# Altium footprint library Custom.PcbLib: 446 footprints (part 5 of 28)
Each footprint in its own frame and in the unit in brackets; x right, y up, seen from the top. Pads: shape width x height; smd on the part's side, far side on the other; paste and mask are expansions set on the pad; w line width, h text height; cw(c..) or ccw(c..) is an arc to the next point about the centre after c.
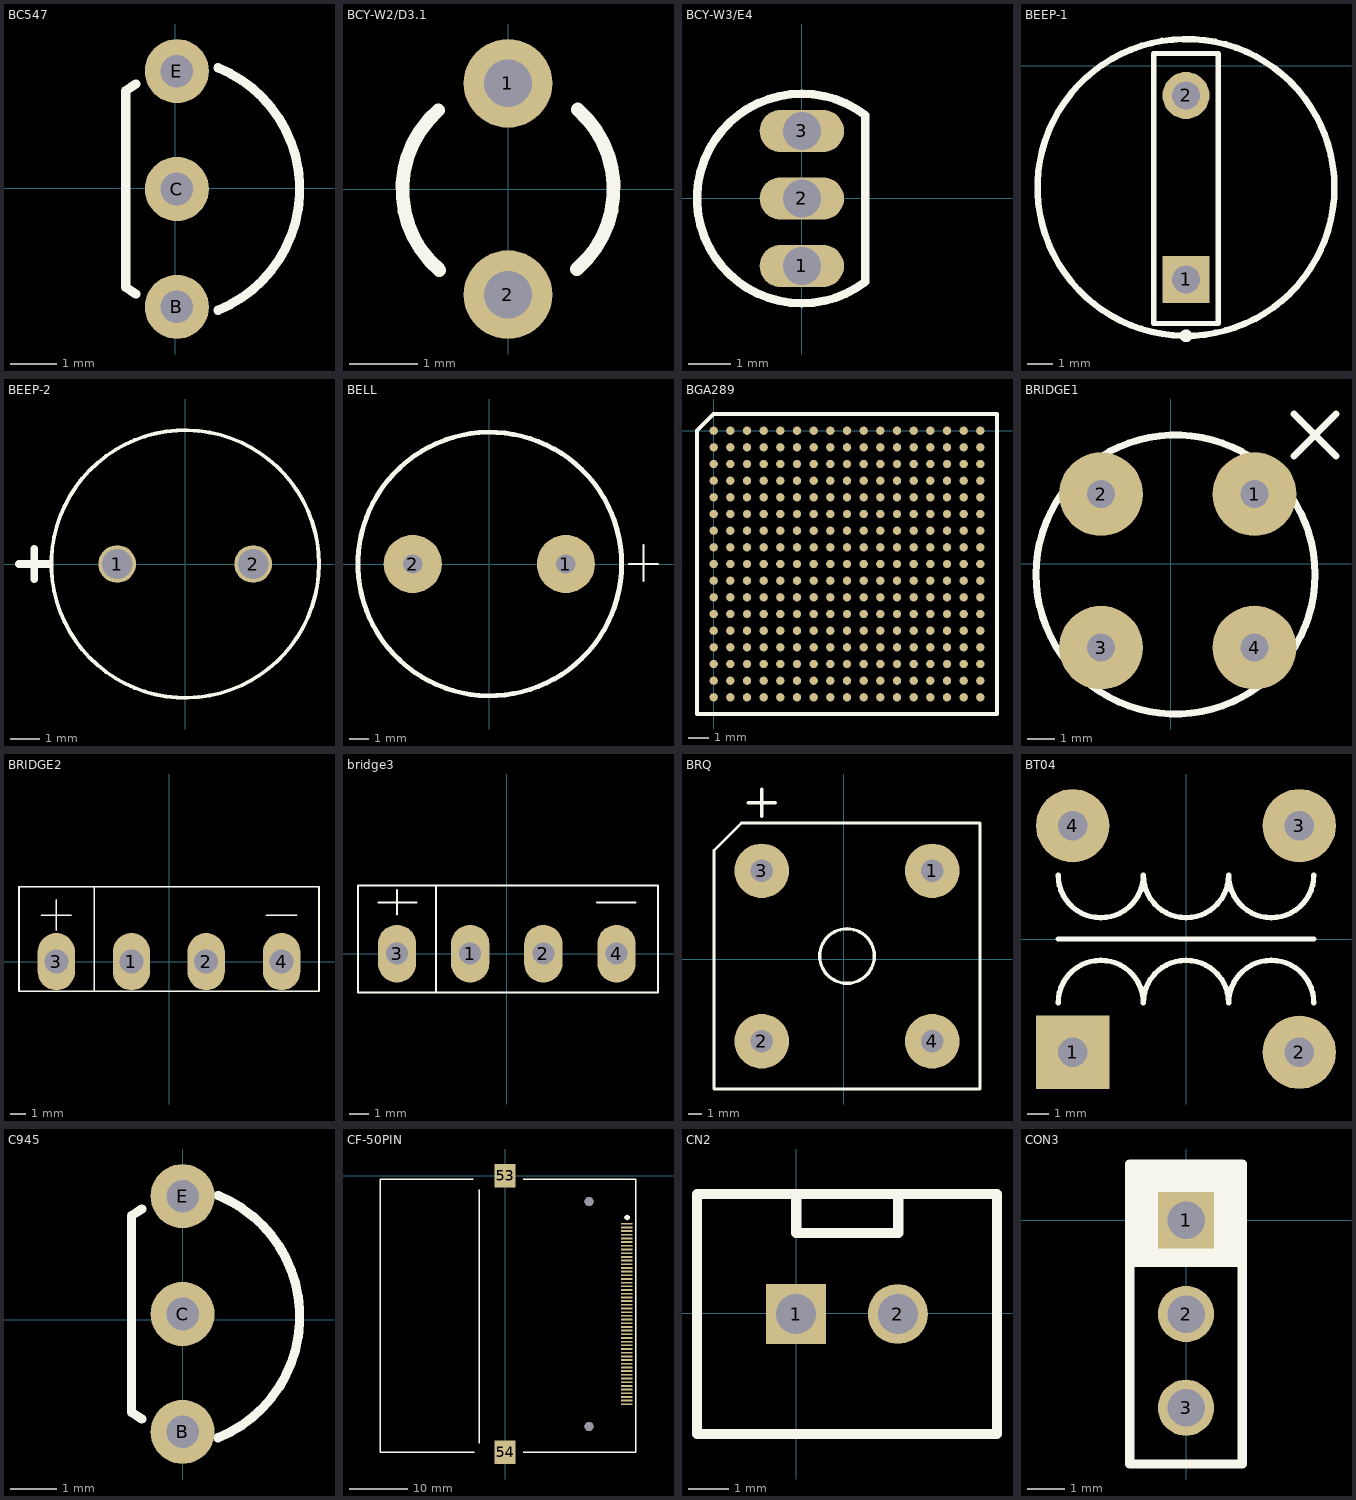
[diagram p4: the footprints below, top view; thin cyan lines are the x and y axes]

## BC547 [mm]
pads (3):
  round 1.38 hole 0.7: B(0.04,-2.56) C(0.04,-0.02) E(0.04,2.52)
Top Overlay:
  lines w0.2: -0.842,-2.283 -1.061,-2.137 -1.061,2.097 -0.842,2.243 ; 0.925,-2.63 ccw(c-0.129,-0.02) 0.925,2.59

## BCY-W2/D3.1 [mm] "Crystal, Thru-Hole; 2 Leads; Body 3.1 x 8.2 mm (Dia.xH)"
pads (2):
  round 1.3 hole 0.7: 1(0,1.55) 2(0,-1.55)
Top Overlay:
  lines w0.2: -1.022,1.155 ccw(c0,-0.01) -1.006,-1.189 ; 1.006,-1.179 ccw(c0,0) 1.022,1.165

## BCY-W3/E4 [mm] "TO, Flat Index; 3 In-Line, Axial Leads; Body Dia. 4.7mm"
pads (3):
  oval 2x1 hole 0.9: 1(0,-1.6) 2(0,0) 3(0,1.6)
Top Overlay:
  lines w0.2: 1.5,-1.98 cw(c0,0) 1.5,1.98 1.5,-1.98

## BEEP-1 [mm]
height 9
pads (2):
  rect 1.85x1.85 hole 1.1: 1(14.213,-8.409)
  round 1.85 hole 1.1: 2(14.213,-1.17)
Top Overlay:
  circle w0.254: c14.213,-4.79 r5.842
  circle w0.25: c14.214,-10.63 r0.125
  lines w0.2: 12.943,-10.149 15.483,-10.149 15.483,-1.589 15.483,0.481 12.943,0.481 12.943,-1.589 12.943,-10.149

## BEEP-2 [mil]
pads (2):
  round 50 hole 40: 1(-90.3,0) 2(89.7,0)
Top Overlay:
  circle w5: c-0.3,0 r177.17
  lines w10: -220.3,0 -180.3,0 ; -200.3,-20 -200.3,20

## BELL [mil]
pads (2):
  round 120 hole 40: 1(158,0) 2(-158,0)
Top Overlay:
  circle w10: c1.11,0 r271.89
  lines w4: 288,0 313,0 ; 302,0 348,0 ; 318,-35 318,39

## BGA289 [mm]
pads (289):
  round 0.4 smd: A1(-0.012,-0.008) A2(0.788,-0.008) A3(1.588,-0.008) A4(2.388,-0.008) A5(3.188,-0.008) A6(3.988,-0.008) A7(4.788,-0.008) A8(5.588,-0.008) A9(6.388,-0.008) A10(7.188,-0.008) A11(7.988,-0.008) A12(8.788,-0.008) A13(9.588,-0.008) A14(10.388,-0.008) A15(11.188,-0.008) A16(11.988,-0.008) A17(12.788,-0.008) B1(-0.012,-0.808) B2(0.788,-0.808) B3(1.588,-0.808) B4(2.388,-0.808) B5(3.188,-0.808) B6(3.988,-0.808) B7(4.788,-0.808) B8(5.588,-0.808) B9(6.388,-0.808) B10(7.188,-0.808) B11(7.988,-0.808) B12(8.788,-0.808) B13(9.588,-0.808) B14(10.388,-0.808) B15(11.188,-0.808) B16(11.988,-0.808) B17(12.788,-0.808) C1(-0.012,-1.608) C2(0.788,-1.608) C3(1.588,-1.608) C4(2.388,-1.608) C5(3.188,-1.608) C6(3.988,-1.608) C7(4.788,-1.608) C8(5.588,-1.608) C9(6.388,-1.608) C10(7.188,-1.608) C11(7.988,-1.608) C12(8.788,-1.608) C13(9.588,-1.608) C14(10.388,-1.608) C15(11.188,-1.608) C16(11.988,-1.608) C17(12.788,-1.608) D1(-0.012,-2.408) D2(0.788,-2.408) D3(1.588,-2.408) D4(2.388,-2.408) D5(3.188,-2.408) D6(3.988,-2.408) D7(4.788,-2.408) D8(5.588,-2.408) D9(6.388,-2.408) D10(7.188,-2.408) D11(7.988,-2.408) D12(8.788,-2.408) D13(9.588,-2.408) D14(10.388,-2.408) D15(11.188,-2.408) D16(11.988,-2.408) D17(12.788,-2.408) E1(-0.012,-3.208) E2(0.788,-3.208) E3(1.588,-3.208) E4(2.388,-3.208) E5(3.188,-3.208) E6(3.988,-3.208) E7(4.788,-3.208) E8(5.588,-3.208) E9(6.388,-3.208) E10(7.188,-3.208) E11(7.988,-3.208) E12(8.788,-3.208) E13(9.588,-3.208) E14(10.388,-3.208) E15(11.188,-3.208) E16(11.988,-3.208) E17(12.788,-3.208) F1(-0.012,-4.008) F2(0.788,-4.008) F3(1.588,-4.008) F4(2.388,-4.008) F5(3.188,-4.008) F6(3.988,-4.008) F7(4.788,-4.008) F8(5.588,-4.008) F9(6.388,-4.008) F10(7.188,-4.008) F11(7.988,-4.008) F12(8.788,-4.008) F13(9.588,-4.008) F14(10.388,-4.008) F15(11.188,-4.008) F16(11.988,-4.008) F17(12.788,-4.008) G1(-0.012,-4.808) G2(0.788,-4.808) G3(1.588,-4.808) G4(2.388,-4.808) G5(3.188,-4.808) G6(3.988,-4.808) G7(4.788,-4.808) G8(5.588,-4.808) G9(6.388,-4.808) G10(7.188,-4.808) G11(7.988,-4.808) G12(8.788,-4.808) G13(9.588,-4.808) G14(10.388,-4.808) G15(11.188,-4.808) G16(11.988,-4.808) G17(12.788,-4.808) H1(-0.012,-5.608) H2(0.788,-5.608) H3(1.588,-5.608) H4(2.388,-5.608) H5(3.188,-5.608) H6(3.988,-5.608) H7(4.788,-5.608) H8(5.588,-5.608) H9(6.388,-5.608) H10(7.188,-5.608) H11(7.988,-5.608) H12(8.788,-5.608) H13(9.588,-5.608) H14(10.388,-5.608) H15(11.188,-5.608) H16(11.988,-5.608) H17(12.788,-5.608) J1(-0.012,-6.408) J2(0.788,-6.408) J3(1.588,-6.408) J4(2.388,-6.408) J5(3.188,-6.408) J6(3.988,-6.408) J7(4.788,-6.408) J8(5.588,-6.408) J9(6.388,-6.408) J10(7.188,-6.408) J11(7.988,-6.408) J12(8.788,-6.408) J13(9.588,-6.408) J14(10.388,-6.408) J15(11.188,-6.408) J16(11.988,-6.408) J17(12.788,-6.408) K1(-0.012,-7.208) K2(0.788,-7.208) K3(1.588,-7.208) K4(2.388,-7.208) K5(3.188,-7.208) K6(3.988,-7.208) K7(4.788,-7.208) K8(5.588,-7.208) K9(6.388,-7.208) K10(7.188,-7.208) K11(7.988,-7.208) K12(8.788,-7.208) K13(9.588,-7.208) K14(10.388,-7.208) K15(11.188,-7.208) K16(11.988,-7.208) K17(12.788,-7.208) L1(-0.012,-8.008) L2(0.788,-8.008) L3(1.588,-8.008) L4(2.388,-8.008) L5(3.188,-8.008) L6(3.988,-8.008) L7(4.788,-8.008) L8(5.588,-8.008) L9(6.388,-8.008) L10(7.188,-8.008) L11(7.988,-8.008) L12(8.788,-8.008) L13(9.588,-8.008) L14(10.388,-8.008) L15(11.188,-8.008) L16(11.988,-8.008) L17(12.788,-8.008) M1(-0.012,-8.808) M2(0.788,-8.808) M3(1.588,-8.808) M4(2.388,-8.808) M5(3.188,-8.808) M6(3.988,-8.808) M7(4.788,-8.808) M8(5.588,-8.808) M9(6.388,-8.808) M10(7.188,-8.808) M11(7.988,-8.808) M12(8.788,-8.808) M13(9.588,-8.808) M14(10.388,-8.808) M15(11.188,-8.808) M16(11.988,-8.808) M17(12.788,-8.808) N1(-0.012,-9.608) N2(0.788,-9.608) N3(1.588,-9.608) N4(2.388,-9.608) N5(3.188,-9.608) N6(3.988,-9.608) N7(4.788,-9.608) N8(5.588,-9.608) N9(6.388,-9.608) N10(7.188,-9.608) N11(7.988,-9.608) N12(8.788,-9.608) N13(9.588,-9.608) N14(10.388,-9.608) N15(11.188,-9.608) N16(11.988,-9.608) N17(12.788,-9.608) P1(-0.012,-10.408) P2(0.788,-10.408) P3(1.588,-10.408) P4(2.388,-10.408) P5(3.188,-10.408) P6(3.988,-10.408) P7(4.788,-10.408) P8(5.588,-10.408) P9(6.388,-10.408) P10(7.188,-10.408) P11(7.988,-10.408) P12(8.788,-10.408) P13(9.588,-10.408) P14(10.388,-10.408) P15(11.188,-10.408) P16(11.988,-10.408) P17(12.788,-10.408) R1(-0.012,-11.208) R2(0.788,-11.208) R3(1.588,-11.208) R4(2.388,-11.208) R5(3.188,-11.208) R6(3.988,-11.208) R7(4.788,-11.208) R8(5.588,-11.208) R9(6.388,-11.208) R10(7.188,-11.208) R11(7.988,-11.208) R12(8.788,-11.208) R13(9.588,-11.208) R14(10.388,-11.208) R15(11.188,-11.208) R16(11.988,-11.208) R17(12.788,-11.208) T1(-0.012,-12.008) T2(0.788,-12.008) T3(1.588,-12.008) T4(2.388,-12.008) T5(3.188,-12.008) T6(3.988,-12.008) T7(4.788,-12.008) T8(5.588,-12.008) T9(6.388,-12.008) T10(7.188,-12.008) T11(7.988,-12.008) T12(8.788,-12.008) T13(9.588,-12.008) T14(10.388,-12.008) T15(11.188,-12.008) T16(11.988,-12.008) T17(12.788,-12.008) U1(-0.012,-12.808) U2(0.788,-12.808) U3(1.588,-12.808) U4(2.388,-12.808) U5(3.188,-12.808) U6(3.988,-12.808) U7(4.788,-12.808) U8(5.588,-12.808) U9(6.388,-12.808) U10(7.188,-12.808) U11(7.988,-12.808) U12(8.788,-12.808) U13(9.588,-12.808) U14(10.388,-12.808) U15(11.188,-12.808) U16(11.988,-12.808) U17(12.788,-12.808)
Top Overlay:
  lines w0.2: -0.812,-13.608 13.588,-13.608 13.588,0.792 -0.012,0.792 -0.812,-0.008 -0.812,-13.608

## BRIDGE1 [mil]
pads (4):
  round 120 hole 40: 1(120,100) 2(-100,100) 3(-100,-120) 4(120,-120)
Top Overlay:
  circle w10: c6.8,-15.2 r200
  lines w10: 176.8,154.8 236.8,214.8 ; 176.8,214.8 236.8,154.8

## BRIDGE2 [mil]
pads (4):
  oval 98x150 hole 63: 1(-98.5,0) 2(97.5,0) 3(-295.5,0) 4(295.5,0)
Top Overlay:
  lines w4: -334.5,122 -256.5,122 ; -295.5,83 -295.5,162 ; -196.5,-78 -196.5,197 ; 255.5,122 334.5,122 ; -393.5,-78 -393.5,197 393.5,197 393.5,-78 -393.5,-78

## bridge3 [mm]
pads (4):
  oval 2x3 hole 1.143: 1(-1.905,0) 2(1.905,0) 3(-5.715,0) 4(5.715,0)
Top Overlay:
  lines w0.102: -6.68,2.667 -4.699,2.667 ; -5.715,2.032 -5.715,3.302 ; -3.683,-2.032 -3.683,3.556 ; 4.699,2.667 6.706,2.667 ; -7.747,-2.032 -7.747,3.556 7.874,3.556 7.874,-2.032 -7.747,-2.032

## BRQ [mil]
pads (4):
  round 160 hole 65: 1(260,260) 2(-240,-240) 3(-240,260) 4(260,-240)
Top Overlay:
  circle w10: c10.04,10.04 r80
  lines w8: -380,-380 -380,320 -300,400 400,400 400,-380 -380,-380
  lines w10: -280,460 -200,460 ; -240,420 -240,500

## BT04 [mm]
pads (4):
  rect 3.5x3.5 hole 1.4: 1(-5.4,-5.4)
  round 3.5 hole 1.4: 2(5.4,-5.4) 3(5.4,5.4) 4(-5.4,5.4)
Top Overlay:
  lines w0.254: -6.096,-3.048 cw(c-4.064,-3.048) -2.032,-3.048 cw(c0,-3.048) 2.032,-3.048 cw(c4.064,-3.048) 6.096,-3.048 ; -6.096,0 6.096,0 ; -6.096,3.048 ccw(c-4.064,3.048) -2.032,3.048 ccw(c0,3.048) 2.032,3.048 ccw(c4.064,3.048) 6.096,3.048

## C945 [mm]
pads (3):
  round 1.38 hole 0.7: B(0,-2.413) C(0,0.127) E(0,2.667)
Top Overlay:
  lines w0.2: -0.882,-2.136 -1.101,-1.99 -1.101,2.244 -0.882,2.39 ; 0.762,-2.54 ccw(c-0.293,0.07) 0.762,2.68

## CF-50PIN [mil]
pads (54):
  rect 80x12 smd: 1(825,-325) 2(825,-375) 3(825,-425) 4(825,-475) 5(825,-525) 6(825,-575) 7(825,-625) 8(825,-675) 9(825,-725) 10(825,-775) 11(825,-825) 12(825,-875) 13(825,-925) 14(825,-975) 15(825,-1025) 16(825,-1075) 17(825,-1125) 18(825,-1175) 19(825,-1225) 20(825,-1275) 21(825,-1325) 22(825,-1375) 23(825,-1425) 24(825,-1475) 25(825,-1525) 26(825,-350) 27(825,-400) 28(825,-450) 29(825,-500) 30(825,-550) 31(825,-600) 32(825,-650) 33(825,-700) 34(825,-750) 35(825,-800) 36(825,-850) 37(825,-900) 38(825,-950) 39(825,-1000) 40(825,-1050) 41(825,-1100) 42(825,-1150) 43(825,-1200) 44(825,-1250) 45(825,-1300) 46(825,-1350) 47(825,-1400) 48(825,-1450) 49(825,-1500) 50(825,-1550)
  round 60 hole 60: 51(570,-175) 52(570,-1700)
  rect 140x160 smd: 53(0,0) 54(0,-1875)
Top Overlay:
  region: 846.04,-283 844.66,-276.1 840.75,-270.25 834.9,-266.34 828,-264.96 821.1,-266.34 815.25,-270.25 811.34,-276.1 809.96,-283 811.34,-289.9 815.25,-295.75 821.1,-299.66 828,-301.04 834.9,-299.66 840.75,-295.75 844.66,-289.9
  lines w10: -217,-25 -845,-25 -845,-1875 -210,-1875 ; -175,-1815 -175,-95 ; 125,-1875 885,-1875 885,-25 125,-25

## CN2 [mm]
pads (2):
  rect 1.5x1.5 hole 1: 1(-0.001,-0.018)
  round 1.5 hole 1: 2(2.539,-0.018)
Top Overlay:
  lines w0.254: -0.001,2.882 -0.001,2.007 2.549,2.007 2.549,2.982 ; -2.481,-3.018 5.019,-3.018 5.019,2.982 -2.481,2.982 -2.481,-3.018

## CON3 [mil]
pads (3):
  rect 60x60 hole 40: 1(0,0)
  round 60 hole 40: 2(0,-100) 3(0,-200)
Top Overlay:
  rectangle: -60,-50 60,60
  lines w10: -60,-260 -60,60 60,60 60,-260 -60,-260